# EAGLE library part MAX4947ETG (library maxim488_custom)
Hex SPDT Data Switch Source: http://datasheets.maxim-ic.com/en/ds/MAX4947-MAX4948.pdf
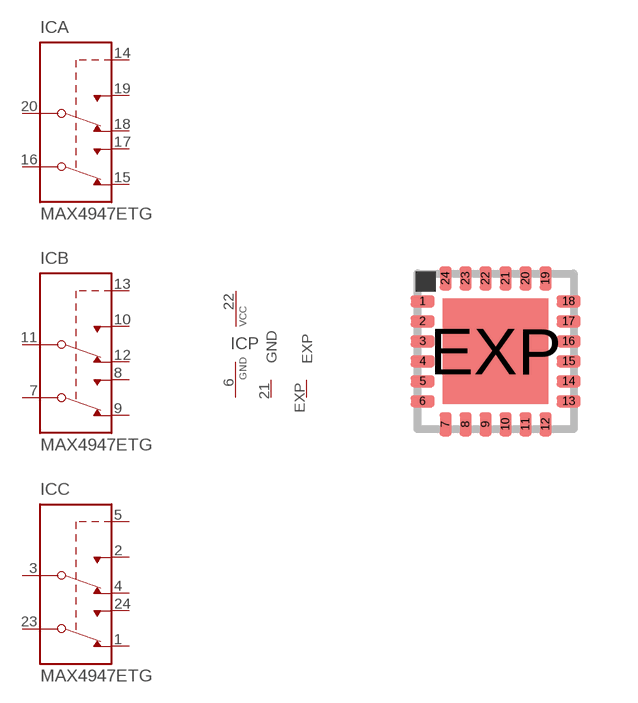
[diagram p389: symbol with the pads of TQFN24-EP; footprint TQFN24-EP]

Designator prefix IC; gates A=MAX4947 B=MAX4947 C=MAX4947 P=VCC-GND P1=GND EXP=EXPOSED

## MAX4947ETG (MPN: MAX4947ETG+; OC_FARNELL: unknown; OC_NEWARK: 19M9696)  [TQFN24-EP]
1  C:NC2
2  C:NO1
3  C:COM1
4  C:NC1
5  C:CB  in
6  P:GND  pwr
7  B:COM2
8  B:NO2
9  B:NC2
10  B:NO1
11  B:COM1
12  B:NC1
13  B:CB  in
14  A:CB  in
15  A:NC2
16  A:COM2
17  A:NO2
18  A:NC1
19  A:NO1
20  A:COM1
21  P1:GND  pwr
22  P:VCC  pwr
23  C:COM2
24  C:NO2
EXP  EXP:EXP  pas

## Footprint TQFN24-EP (pad centres in mm)
24 TQFN-EP 24 T2444-4 Source: http://datasheets.maxim-ic.com/en/ds/MAX4947-MAX4948.pdf
smd 0.6 x 0.3: 1 -1.825,1.25; 2 -1.825,0.75; 3 -1.825,0.25; 4 -1.825,-0.25; 5 -1.825,-0.75; 6 -1.825,-1.25; 13 1.825,-1.25; 14 1.825,-0.75; 15 1.825,-0.25; 16 1.825,0.25; 17 1.825,0.75; 18 1.825,1.25
smd 0.3 x 0.6: 7 -1.25,-1.825; 8 -0.75,-1.825; 9 -0.25,-1.825; 10 0.25,-1.825; 11 0.75,-1.825; 12 1.25,-1.825; 19 1.25,1.825; 20 0.75,1.825; 21 0.25,1.825; 22 -0.25,1.825; 23 -0.75,1.825; 24 -1.25,1.825
smd 2.63 x 2.63: EXP 0,0